# Altium footprint library module&chips.PcbLib: 65 footprints (part 4 of 5)
Each footprint in its own frame and in the unit in brackets; x right, y up, seen from the top. Pads: shape width x height; smd on the part's side, far side on the other; paste and mask are expansions set on the pad; w line width, h text height; cw(c..) or ccw(c..) is an arc to the next point about the centre after c.
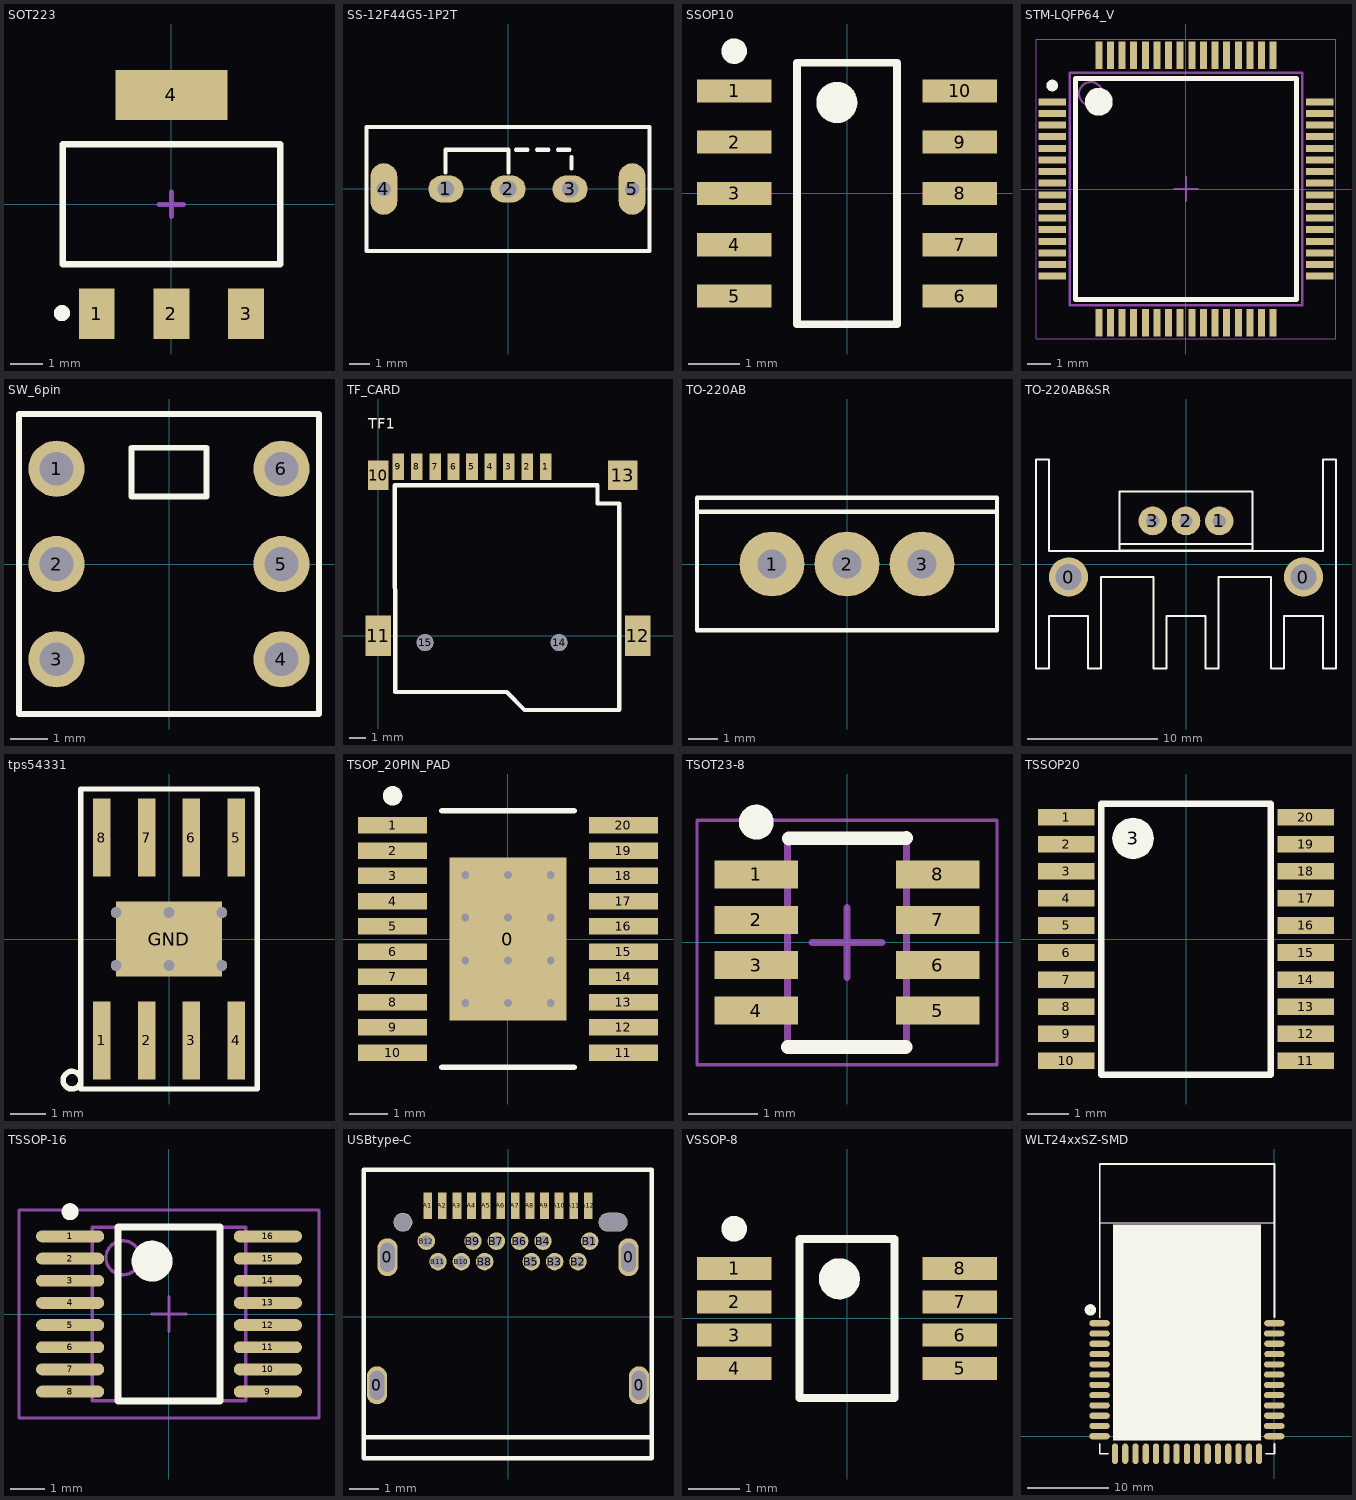
[diagram p3: the footprints below, top view; thin cyan lines are the x and y axes]

## SOT223 [mm]
height 1.8
pads (4):
  rect 1.1x1.55 smd: 1(-2.3,-3.375) 2(0,-3.375) 3(2.3,-3.375)
  rect 3.45x1.55 smd: 4(0,3.375)
Top Overlay:
  circle w0.25: c-3.376,-3.353 r0.125
  lines w0.2: -3.35,-1.85 3.35,-1.85 3.35,1.85 -3.35,1.85 -3.35,-1.85
Mechanical 15:
  lines w0.15: -0.381,0 0.381,0 ; 0,-0.381 0,0.381
3D body: height 1.7, standoff 0, extent -3.25,-3.48 3.25,3.48

## SS-12F44G5-1P2T [mm]
pads (5):
  oval 1.7x1.3 hole 0.8: 1(-3,0) 2(0,0) 3(3,0)
  oval 1.3x2.5 hole 0.7: 4(-6,0) 5(6,0)
Top Overlay:
  lines w0.203: -3.023,0.8 -3.023,1.9 0.025,1.9 0.025,0.8 ; 0.381,1.9 0.94,1.9 ; 1.397,1.9 1.956,1.9 ; 2.413,1.9 2.972,1.9 ; 3.073,0.984 3.073,1.543 ; -6.833,-3 -6.833,3 6.833,3 6.833,-3 -6.833,-3

## SSOP10 [mm]
height 1.75
pads (10):
  rect 1.45x0.45 smd: 1(-2.2,2) 2(-2.2,1) 3(-2.2,0) 4(-2.2,-1) 5(-2.2,-2) 6(2.2,-2) 7(2.2,-1) 8(2.2,0) 9(2.2,1) 10(2.2,2)
Top Overlay:
  circle w0.25: c-2.2,2.775 r0.125
  circle w0.4: c-0.199,1.774 r0.2
  lines w0.152: -0.975,-2.55 -0.975,2.55 0.975,2.55 0.975,-2.55 -0.975,-2.55

## STM-LQFP64_V [mm] "Thin QFP, 64-Leads, Body 10x10mm, Pitch 0.5mm, ST Recommended"
height 1.6
pads (64):
  rect 1.2x0.3 smd: 1(-5.75,3.75) 2(-5.75,3.25) 3(-5.75,2.75) 4(-5.75,2.25) 5(-5.75,1.75) 6(-5.75,1.25) 7(-5.75,0.75) 8(-5.75,0.25) 9(-5.75,-0.25) 10(-5.75,-0.75) 11(-5.75,-1.25) 12(-5.75,-1.75) 13(-5.75,-2.25) 14(-5.75,-2.75) 15(-5.75,-3.25) 16(-5.75,-3.75) 33(5.75,-3.75) 34(5.75,-3.25) 35(5.75,-2.75) 36(5.75,-2.25) 37(5.75,-1.75) 38(5.75,-1.25) 39(5.75,-0.75) 40(5.75,-0.25) 41(5.75,0.25) 42(5.75,0.75) 43(5.75,1.25) 44(5.75,1.75) 45(5.75,2.25) 46(5.75,2.75) 47(5.75,3.25) 48(5.75,3.75)
  rect 0.3x1.2 smd: 17(-3.75,-5.75) 18(-3.25,-5.75) 19(-2.75,-5.75) 20(-2.25,-5.75) 21(-1.75,-5.75) 22(-1.25,-5.75) 23(-0.75,-5.75) 24(-0.25,-5.75) 25(0.25,-5.75) 26(0.75,-5.75) 27(1.25,-5.75) 28(1.75,-5.75) 29(2.25,-5.75) 30(2.75,-5.75) 31(3.25,-5.75) 32(3.75,-5.75) 49(3.75,5.75) 50(3.25,5.75) 51(2.75,5.75) 52(2.25,5.75) 53(1.75,5.75) 54(1.25,5.75) 55(0.75,5.75) 56(0.25,5.75) 57(-0.25,5.75) 58(-0.75,5.75) 59(-1.25,5.75) 60(-1.75,5.75) 61(-2.25,5.75) 62(-2.75,5.75) 63(-3.25,5.75) 64(-3.75,5.75)
Top Overlay:
  circle w0.6: c-3.75,3.75 r0.3
  circle w0.25: c-5.75,4.45 r0.125
  lines w0.2: -4.75,-4.75 4.75,-4.75 4.75,4.75 -4.75,4.75 -4.75,-4.75
Mechanical 13:
  circle w0.1: c-4.1,4.1 r0.5
  lines w0.1: -5,-5 5,-5 5,5 -5,5 -5,-5
Mechanical 15:
  lines w0.05: -6.45,-6.45 6.45,-6.45 6.45,6.45 -6.45,6.45 -6.45,-6.45
  lines w0.1: -0.5,0 0.5,0 ; 0,-0.5 0,0.5
3D body: height 1.6, standoff 0.05, extent -5,-5 5,5

## SW_6pin [mm] "6脚按钮开关"
pads (6):
  round 1.5 hole 0.9: 1(-3,2.54) 2(-3,0) 3(-3,-2.54) 4(3,-2.54) 5(3,0) 6(3,2.54)
Top Overlay:
  lines w0.152: -4,-4 -4,4 4,4 4,-4 -4,-4 ; -1,1.8 -1,3.1 1,3.1 1,1.8 -1,1.8

## TF_CARD [mm]
pads (15):
  rect 0.7x1.6 smd: 1(10,10.1) 2(8.9,10.1) 3(7.8,10.1) 4(6.7,10.1) 5(5.6,10.1) 6(4.5,10.1) 7(3.4,10.1) 8(2.3,10.1) 9(1.2,10.1)
  rect 1.2x1.778 smd: 10(0,9.6)
  rect 1.524x2.413 smd: 11(0,0) 12(15.5,0)
  rrect0% 1.778x1.778 smd: 13(14.6,9.6)
  round 1 hole 1: 14(10.8,-0.4) 15(2.8,-0.4)
Top Overlay:
  lines w0.254: 0.984,9 13.1,9 13.1,7.9 14.4,7.9 14.4,-4.402 8.738,-4.42 7.671,-3.353 1.019,-3.353 0.984,9
  text "TF1" at -0.6,12.373 h0.64

## TO-220AB [mm]
pads (3):
  round 2.2 hole 1: 1(-2.55,0) 2(0,0) 3(2.55,0)
Top Overlay:
  lines w0.152: -5.1,1.778 5.1,1.778 ; -5.1,-2.25 5.1,-2.25 5.1,2.25 -5.1,2.25 -5.1,-2.25

## TO-220AB&SR [mm] "带散热"
pads (5):
  round 3 hole 2: 0(-9,-1) 0(9,-1)
  round 2.2 hole 1: 1(2.55,3.302) 2(0,3.302) 3(-2.55,3.302)
Top Overlay:
  lines w0.152: -5.1,1.524 5.1,1.524 ; -11.5,-8 -11.5,8 -10.5,8 -10.5,1 10.5,1 10.5,8 11.5,8 11.5,-8 10.5,-8 10.5,-4 7.5,-4 7.5,-8 6.5,-8 6.5,-1 2.5,-1 2.5,-8 1.5,-8 1.5,-4 -1.5,-4 -1.5,-8 -2.5,-8 -2.5,-1 -6.5,-1 -6.5,-8 -7.5,-8 -7.5,-4 -10.5,-4 -10.5,-8 -11.5,-8 ; -5.1,1.052 5.1,1.052 5.1,5.552 -5.1,5.552 -5.1,1.052

## tps54331 [mm]
pads (15):
  rect 0.5x2.2 smd: 1(-1.905,-2.875) 2(-0.635,-2.875) 3(0.635,-2.875) 4(1.905,-2.875) 5(1.905,2.875) 6(0.635,2.875) 7(-0.635,2.875) 8(-1.905,2.875)
  round 0.3 hole 0.3: GND(-1.5,-0.75) GND(-1.5,0.75) GND(0,-0.75) GND(0,0.75) GND(1.5,-0.75) GND(1.5,0.75)
  rect 3x2.13 smd: GND(0,0)
Top Overlay:
  circle w0.152: c-2.75,-4 r0.25
  lines w0.152: -2.5,-4.25 2.5,-4.25 2.5,4.25 -2.5,4.25 -2.5,-4.25

## TSOP_20PIN_PAD [mm] "TSOP, 20-Leads, Thermal Pad"
height 1.1
pads (21):
  rect 3x4.2 smd: 0(0,0)
  rect 1.78x0.42 smd: 1(-2.97,2.925) 2(-2.97,2.275) 3(-2.97,1.625) 4(-2.97,0.975) 5(-2.97,0.325) 6(-2.97,-0.325) 7(-2.97,-0.975) 8(-2.97,-1.625) 9(-2.97,-2.275) 10(-2.97,-2.925) 11(2.97,-2.925) 12(2.97,-2.275) 13(2.97,-1.625) 14(2.97,-0.975) 15(2.97,-0.325) 16(2.97,0.325) 17(2.97,0.975) 18(2.97,1.625) 19(2.97,2.275) 20(2.97,2.925)
via -1.1,1.65 diameter 0.5 hole 0.2
via 0,1.65 diameter 0.5 hole 0.2
via 1.1,1.65 diameter 0.5 hole 0.2
via -1.1,0.55 diameter 0.5 hole 0.2
via 0,0.55 diameter 0.5 hole 0.2
via 1.1,0.55 diameter 0.5 hole 0.2
via -1.1,-0.55 diameter 0.5 hole 0.2
via 0,-0.55 diameter 0.5 hole 0.2
via 1.1,-0.55 diameter 0.5 hole 0.2
via -1.1,-1.65 diameter 0.5 hole 0.2
via 0,-1.65 diameter 0.5 hole 0.2
via 1.1,-1.65 diameter 0.5 hole 0.2
Top Overlay:
  circle w0.25: c-2.97,3.685 r0.125
  lines w0.152: -1.7,-3.3 1.7,-3.3 ; -1.7,3.3 1.7,3.3

## TSOT23-8 [mm] "TSOT23-8, 8-Leads, Body 2.90x1.60mm, Pitch 0.65mm"
height 1
pads (8):
  rect 1.2x0.4 smd: 1(-1.3,0.975) 2(-1.3,0.325) 3(-1.3,-0.325) 4(-1.3,-0.975) 5(1.3,-0.975) 6(1.3,-0.325) 7(1.3,0.325) 8(1.3,0.975)
Top Overlay:
  circle w0.25: c-1.3,1.725 r0.125
  lines w0.2: -0.848,-1.497 0.836,-1.497 ; -0.835,1.492 0.849,1.499
Mechanical 13:
  lines w0.1: -0.85,-1.5 0.85,-1.5 0.85,1.5 -0.85,1.5 -0.85,-1.5
Mechanical 15:
  lines w0.05: -2.15,-1.75 2.15,-1.75 2.15,1.75 -2.15,1.75 -2.15,-1.75
  lines w0.1: -0.5,0 0.5,0 ; 0,-0.5 0,0.5
3D body: height 1, standoff 0.25, extent -0.85,-1.5 0.85,1.5

## TSSOP20 [mm]
pads (21):
  rect 1.35x0.4 smd: 1(-2.875,2.925) 2(-2.875,2.275) 3(-2.875,1.625) 4(-2.875,0.975) 5(-2.875,0.325) 6(-2.875,-0.325) 7(-2.875,-0.975) 8(-2.875,-1.625) 9(-2.875,-2.275) 10(-2.875,-2.925) 11(2.875,-2.925) 12(2.875,-2.275) 13(2.875,-1.625) 14(2.875,-0.975) 15(2.875,-0.325) 16(2.875,0.325) 17(2.875,0.975) 18(2.875,1.625) 19(2.875,2.275) 20(2.875,2.925)
  round 1 on Top Overlay: 3(-1.27,2.413)
Top Overlay:
  lines w0.152: -2.032,-3.258 2.032,-3.258 2.032,3.25 -2.032,3.25 -2.032,-3.258

## TSSOP-16 [mm] "TSOP, 16-Leads, Body 5x4.4mm, Pitch 0.65mm, IPC Low Density"
height 1.1
pads (16):
  oval 2x0.35 smd: 1(-2.9,2.275) 2(-2.9,1.625) 3(-2.9,0.975) 4(-2.9,0.325) 5(-2.9,-0.325) 6(-2.9,-0.975) 7(-2.9,-1.625) 8(-2.9,-2.275) 9(2.9,-2.275) 10(2.9,-1.625) 11(2.9,-0.975) 12(2.9,-0.325) 13(2.9,0.325) 14(2.9,0.975) 15(2.9,1.625) 16(2.9,2.275)
Top Overlay:
  circle w0.25: c-2.9,3 r0.125
  circle w0.6: c-0.5,1.55 r0.3
  lines w0.2: -1.5,-2.55 -1.5,2.55 1.5,2.55 1.5,-2.55 -1.5,-2.55
Mechanical 13:
  circle w0.1: c-1.35,1.65 r0.5
  lines w0.1: -2.25,-2.55 -2.25,2.55 2.25,2.55 2.25,-2.55 -2.25,-2.55
Mechanical 15:
  lines w0.1: -0.5,0 0.5,0 ; 0,-0.5 0,0.5 ; -4.4,-3.05 -4.4,3.05 4.4,3.05 4.4,-3.05 -4.4,-3.05
3D body: height 1.1, standoff 0, extent -2.25,-2.55 2.25,2.55

## USBtype-C [mm] "USBtypeC母座"
pads (30):
  oval 0.7x1.3 hole 0.5 slot 1 at 90 deg: 0(-4.49,-2.345) 0(-4.13,2.045) 0(4.13,2.045) 0(4.49,-2.345)
  rect 0.3x0.9 smd: A1(-2.75,3.81) A2(-2.25,3.81) A3(-1.75,3.81) A4(-1.25,3.81) A5(-0.75,3.81) A6(-0.25,3.81) A7(0.25,3.81) A8(0.75,3.81) A9(1.25,3.81) A10(1.75,3.81) A11(2.25,3.81) A12(2.75,3.81)
  round 0.6 hole 0.4: B1(2.8,2.595) B2(2.4,1.895) B3(1.6,1.895) B4(1.2,2.595) B5(0.8,1.895) B6(0.4,2.595) B7(-0.4,2.595) B8(-0.8,1.895) B9(-1.2,2.595) B10(-1.6,1.895) B11(-2.4,1.895) B12(-2.8,2.595)
  round 0.65 hole 0.6 unplated: ""(-3.6,3.245)
  oval 1x0.65 hole 0.6 slot 0.95 at 0 deg: ""(3.6,3.245)
Top Overlay:
  lines w0.152: -4.95,-4.85 -4.95,5.05 4.925,5.05 ; -4.95,-4.126 4.925,-4.126 ; -4.925,-4.85 4.925,-4.85 4.925,5.044

## VSSOP-8 [mm]
height 1.1
pads (8):
  rect 1.45x0.45 smd: 1(-2.2,0.975) 2(-2.2,0.325) 3(-2.2,-0.325) 4(-2.2,-0.975) 5(2.2,-0.975) 6(2.2,-0.325) 7(2.2,0.325) 8(2.2,0.975)
Top Overlay:
  circle w0.25: c-2.2,1.75 r0.125
  circle w0.4: c-0.149,0.774 r0.2
  lines w0.152: -0.925,-1.55 -0.925,1.55 0.925,1.55 0.925,-1.55 -0.925,-1.55

## WLT24xxSZ-SMD [mil]
pads (39):
  oval 100x30 smd: 1(-850,550) 2(-850,500) 3(-850,450) 4(-850,400) 5(-850,350) 6(-850,300) 7(-850,250) 8(-850,200) 9(-850,150) 10(-850,100) 11(-850,50) 12(-850,0) 28(0,0) 29(0,50) 30(0,100) 31(0,150) 32(0,200) 33(0,250) 34(0,300) 35(0,350) 36(1.37,400) 37(1.37,450) 38(0,500) 39(1.37,550)
  oval 30x100 smd: 13(-775,-85) 14(-725,-85) 15(-675,-85) 16(-625,-85) 17(-575,-85) 18(-525,-85) 19(-475,-85) 20(-425,-85) 21(-375,-85) 22(-323.63,-85) 23(-273.63,-85) 24(-223.63,-85) 25(-173.63,-85) 26(-123.63,-85) 27(-73.63,-85)
Top Overlay:
  circle w25: c-895,615 r15
  rectangle: -785,-20 -65,1030
  lines w5: -848.63,1040 1.37,1040
  lines w8: -848.63,-37 -848.63,-85 -809.07,-85 ; -848.63,576.42 -848.63,1325 1.37,1325 1.37,931.73 ; -41.74,-85 0,-85 ; 1.37,-85 1.37,-36.85 ; 1.37,579.52 1.37,935
Keep-Out Layer:
  circle w6: c-435,875 r81
  lines w6: -850,1040 -850,1325 0,1325 0,1040 -850,1040